# EAGLE library part ARDUINO_UNO_SHIELD_ICSP (library Arduino_Shields)
Arduino Uno R3 Shield with ICSP header.
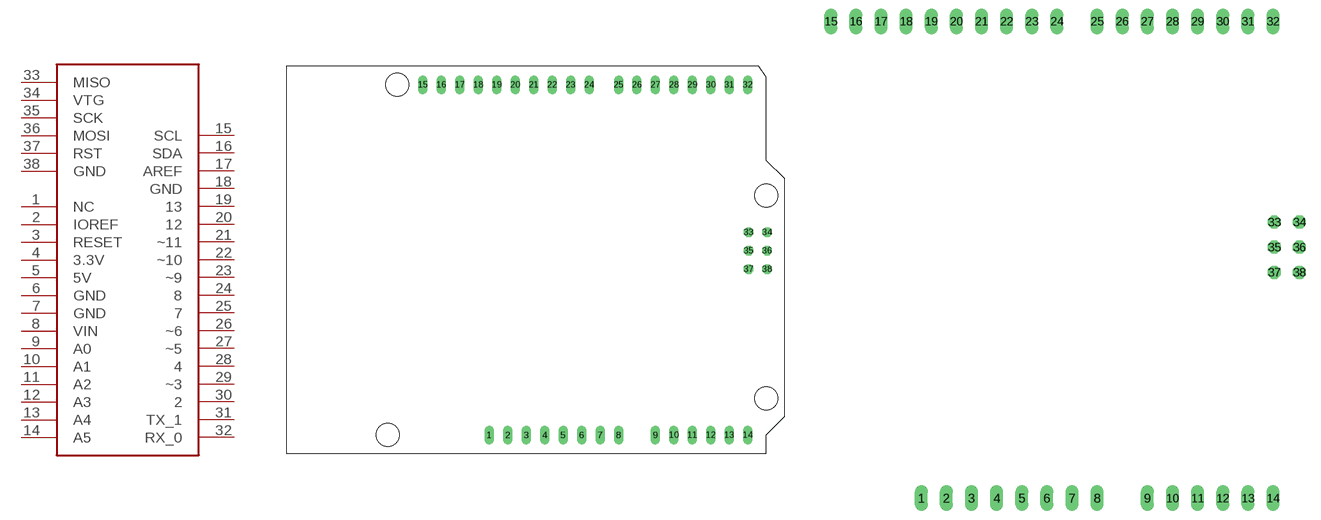
[diagram p1: symbol with the pads of ICSP_FULL; footprints ICSP_FULL, ICSP_PADS_ONLY]

Designator prefix -

## ARDUINO_UNO_SHIELD_ICSP_FULL  [ICSP_FULL]
1  NC  nc
2  IOREF
3  RESET
4  3.3V
5  5V
6  GND
7  GND
8  VIN
9  A0
10  A1
11  A2
12  A3
13  A4
14  A5
15  SCL
16  SDA
17  AREF
18  GND
19  13
20  12
21  ~11
22  ~10
23  ~9
24  8
25  7
26  ~6
27  ~5
28  4
29  ~3
30  2
31  TX_1
32  RX_0
33  MISO
34  VTG
35  SCK
36  MOSI
37  RST
38  GND

## ARDUINO_UNO_SHIELD_ICSP_PADS_ONLY  [ICSP_PADS_ONLY]
Pads as for ICSP_FULL

## ARDUINO_UNO_SHIELD_ICSP_PADS_HOLES  [ICSP_PADS_HOLES]
Pads as for ICSP_FULL

## Footprint ICSP_FULL (pad centres in mm)
drill 0.8 long: 1 27.94,2.54; 2 30.48,2.54; 3 33.02,2.54; 4 35.56,2.54; 5 38.1,2.54; 6 40.64,2.54; 7 43.18,2.54; 8 45.72,2.54; 9 50.8,2.54; 10 53.34,2.54; 11 55.88,2.54; 12 58.42,2.54; 13 60.96,2.54; 14 63.5,2.54; 15 18.796,50.8; 16 21.336,50.8; 17 23.876,50.8; 18 26.416,50.8; 19 28.956,50.8; 20 31.496,50.8; 21 34.036,50.8; 22 36.576,50.8; 23 39.116,50.8; 24 41.656,50.8; 25 45.72,50.8; 26 48.26,50.8; 27 50.8,50.8; 28 53.34,50.8; 29 55.88,50.8; 30 58.42,50.8; 31 60.96,50.8; 32 63.5,50.8
drill 0.8 octagon: 33 63.627,30.48; 34 66.167,30.48; 35 63.627,27.94; 36 66.167,27.94; 37 63.627,25.4; 38 66.167,25.4
hole 3.175 at 13.97,2.54
hole 3.175 at 66.04,7.62
hole 3.175 at 66.04,35.56
hole 3.175 at 15.24,50.8

## Footprint ICSP_PADS_ONLY (pad centres in mm)
drill 0.8 long: 1 27.94,2.54; 2 30.48,2.54; 3 33.02,2.54; 4 35.56,2.54; 5 38.1,2.54; 6 40.64,2.54; 7 43.18,2.54; 8 45.72,2.54; 9 50.8,2.54; 10 53.34,2.54; 11 55.88,2.54; 12 58.42,2.54; 13 60.96,2.54; 14 63.5,2.54; 15 18.796,50.8; 16 21.336,50.8; 17 23.876,50.8; 18 26.416,50.8; 19 28.956,50.8; 20 31.496,50.8; 21 34.036,50.8; 22 36.576,50.8; 23 39.116,50.8; 24 41.656,50.8; 25 45.72,50.8; 26 48.26,50.8; 27 50.8,50.8; 28 53.34,50.8; 29 55.88,50.8; 30 58.42,50.8; 31 60.96,50.8; 32 63.5,50.8
drill 0.8 octagon: 33 63.627,30.48; 34 66.167,30.48; 35 63.627,27.94; 36 66.167,27.94; 37 63.627,25.4; 38 66.167,25.4

## Footprint ICSP_PADS_HOLES (pad centres in mm)
drill 0.8 long: 1 27.94,2.54; 2 30.48,2.54; 3 33.02,2.54; 4 35.56,2.54; 5 38.1,2.54; 6 40.64,2.54; 7 43.18,2.54; 8 45.72,2.54; 9 50.8,2.54; 10 53.34,2.54; 11 55.88,2.54; 12 58.42,2.54; 13 60.96,2.54; 14 63.5,2.54; 15 18.796,50.8; 16 21.336,50.8; 17 23.876,50.8; 18 26.416,50.8; 19 28.956,50.8; 20 31.496,50.8; 21 34.036,50.8; 22 36.576,50.8; 23 39.116,50.8; 24 41.656,50.8; 25 45.72,50.8; 26 48.26,50.8; 27 50.8,50.8; 28 53.34,50.8; 29 55.88,50.8; 30 58.42,50.8; 31 60.96,50.8; 32 63.5,50.8
drill 0.8: 33 63.627,30.48; 34 66.167,30.48; 35 63.627,27.94; 36 66.167,27.94; 37 63.627,25.4; 38 66.167,25.4
hole 3.175 at 13.97,2.54
hole 3.175 at 66.04,7.62
hole 3.175 at 66.04,35.56
hole 3.175 at 15.24,50.8